# Altium integrated library MPX5700DP.IntLib: 1 symbol
Pins are listed as number, name and electrical type; pins without a type are passive.

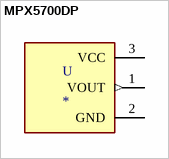
[diagram p0: symbol MPX5700DP]

## MPX5700DP
designator U
Pressure Sensor 101.53PSI _700kPa_ Differential Male - 0.19 _4.93mm_ Tube, Dual 0.2 V ~ 4.7 V 6-SIP Module; MP: MPX5700DP; MF: NXP USA; Availability: Unavailable; SnapEDA_Link: https://www.snapeda.com/parts/MPX5700DP/NXP%20USA%20Inc./view-part/1784979/?ref=snap; Price: None; Value: *; Package: SIP-6 NXP Semiconductors
footprint XDCR_MPX5700DP
pins: 1 VOUT (out), 2 GND (power), 3 VCC (power)